# EAGLE library part 62201621121 (library Board_to_Board_Connectors_rev15d)
WR-PHD 1.27mm Dual Pin Header, 16 Pins=>Code : Con_BTB_PHD_1.27_2_62201621121 <http://katalog.we-online.de/media/thumbs2/eican/thb_Con_BTB_PHD_1.27_2_6220xx21121_pf2.jpg> Details see: http://katalog.we-online.de/en/em/622_0xx_211_21 Created 2014-06-03, Karrer Zheng 2014 (C) Würth Elektronik
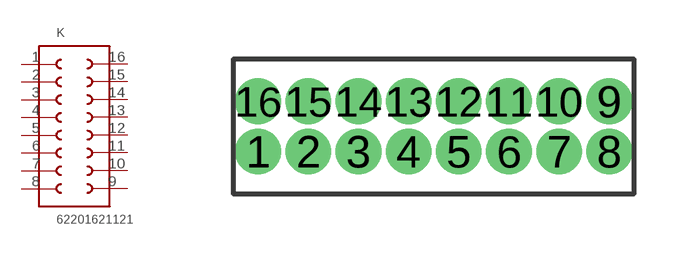
[diagram p287: symbol with the pads of 62201621121; footprint 62201621121]

Designator prefix K

## 62201621121  [62201621121]
1  1  pas
2  2  pas
3  3  pas
4  4  pas
5  5  pas
6  6  pas
7  7  pas
8  8  pas
9  9  pas
10  10  pas
11  11  pas
12  12  pas
13  13  pas
14  14  pas
15  15  pas
16  16  pas

## Footprint 62201621121 (pad centres in mm)
WR-PHD 1.27mm Dual Pin Header, 16 Pins
drill 0.65: 1 -4.445,-0.635; 2 -3.175,-0.635; 3 -1.905,-0.635; 4 -0.635,-0.635; 5 0.635,-0.635; 6 1.905,-0.635; 7 3.175,-0.635; 8 4.445,-0.635; 9 4.445,0.635; 10 3.175,0.635; 11 1.905,0.635; 12 0.635,0.635; 13 -0.635,0.635; 14 -1.905,0.635; 15 -3.175,0.635; 16 -4.445,0.635